# Altium schematic symbol library Passives.SchLib: 11 symbols
Pins are listed as number, name and electrical type; pins without a type are passive.

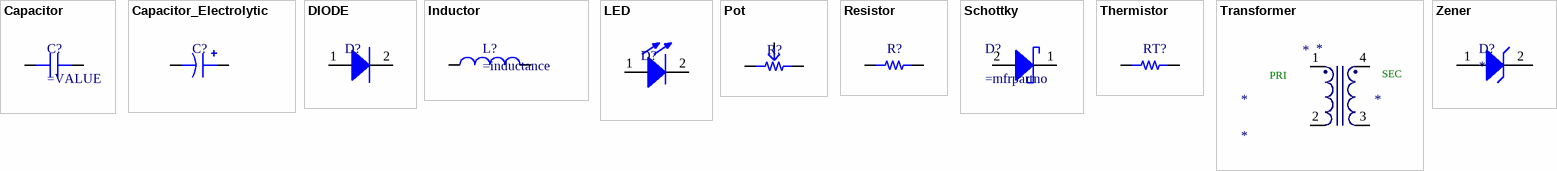
[diagram p0: symbols Capacitor to Zener]

## Capacitor
designator C?
SMT Capacitor
pins: 1, 2

## Capacitor_Electrolytic
designator C?
SMT Capacitor
pins: 1, 2

## DIODE
designator D?  (value not drawn)
mfrpartno: *
pins: 1 A, 2 K

## Inductor
designator L?
pins: 1, 2

## LED
designator D?
pins: 1 A, 2 K

## Pot
designator R?
pins: 1, 2, 3

## Resistor
designator R?
pins: 1, 2

## Schottky
designator D?
pins: 1 K, 2 A

## Thermistor
designator RT?
pins: 1, 2

## Transformer
designator *
=MfrPartNo: *; =Value: *; =Voltage_Secondary: *; =Voltage_Primary: *
pins: 1, 2, 3, 4
text: PRI; SEC

## Zener
designator D?
MfrPartNo: *
pins: 1 A, 2 K